# EAGLE library part IDT71V424S15PHGI8 (library TSOP44-T2)
IDT71V424S15PHGI8 3.3V CMOS Static RAM 4 Meg (512K x 8-Bit)
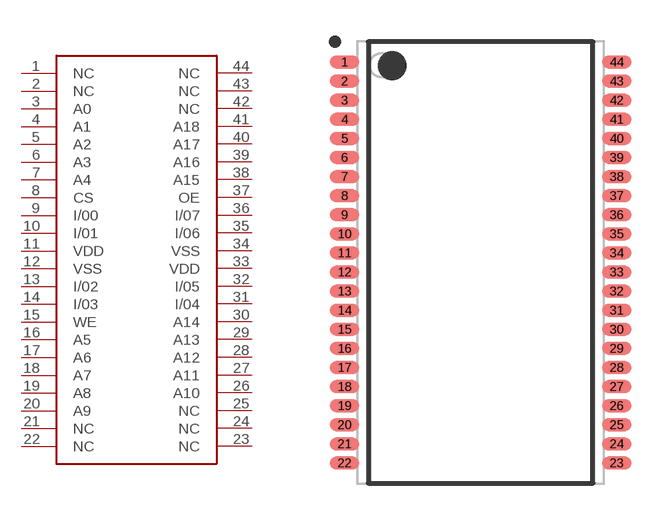
[diagram p0: symbol with the pads of TSOP44-T2; footprint TSOP44-T2]

Designator prefix -

## IDT71V424S15PHGI8  [TSOP44-T2]
1  NC
2  NC
3  A0
4  A1
5  A2
6  A3
7  A4
8  CS
9  I/00
10  I/01
11  VDD
12  VSS
13  I/02
14  I/03
15  WE
16  A5
17  A6
18  A7
19  A8
20  A9
21  NC
22  NC
23  NC
24  NC
25  NC
26  A10
27  A11
28  A12
29  A13
30  A14
31  I/04
32  I/05
33  VDD
34  VSS
35  I/06
36  I/07
37  OE
38  A15
39  A16
40  A17
41  A18
42  NC
43  NC
44  NC

## Footprint TSOP44-T2 (pad centres in mm)
IPC7351A - SOP80P1176X120-44N
smd 1.25 x 0.55: 1 -5.7,8.4; 2 -5.7,7.6; 3 -5.7,6.8; 4 -5.7,6; 5 -5.7,5.2; 6 -5.7,4.4; 7 -5.7,3.6; 8 -5.7,2.8; 9 -5.7,2; 10 -5.7,1.2; 11 -5.7,0.4; 12 -5.7,-0.4; 13 -5.7,-1.2; 14 -5.7,-2; 15 -5.7,-2.8; 16 -5.7,-3.6; 17 -5.7,-4.4; 18 -5.7,-5.2; 19 -5.7,-6; 20 -5.7,-6.8; 21 -5.7,-7.6; 22 -5.7,-8.4; 23 5.7,-8.4; 24 5.7,-7.6; 25 5.7,-6.8; 26 5.7,-6; 27 5.7,-5.2; 28 5.7,-4.4; 29 5.7,-3.6; 30 5.7,-2.8; 31 5.7,-2; 32 5.7,-1.2; 33 5.7,-0.4; 34 5.7,0.4; 35 5.7,1.2; 36 5.7,2; 37 5.7,2.8; 38 5.7,3.6; 39 5.7,4.4; 40 5.7,5.2; 41 5.7,6; 42 5.7,6.8; 43 5.7,7.6; 44 5.7,8.4